# EAGLE library part K2EBP* (library EW_Electro_Mechanical)
UNIQUELY DESIGNED RELAY NAiS Source: http://www.mew-europe.com/.. en_ds_61013_0000.pdf
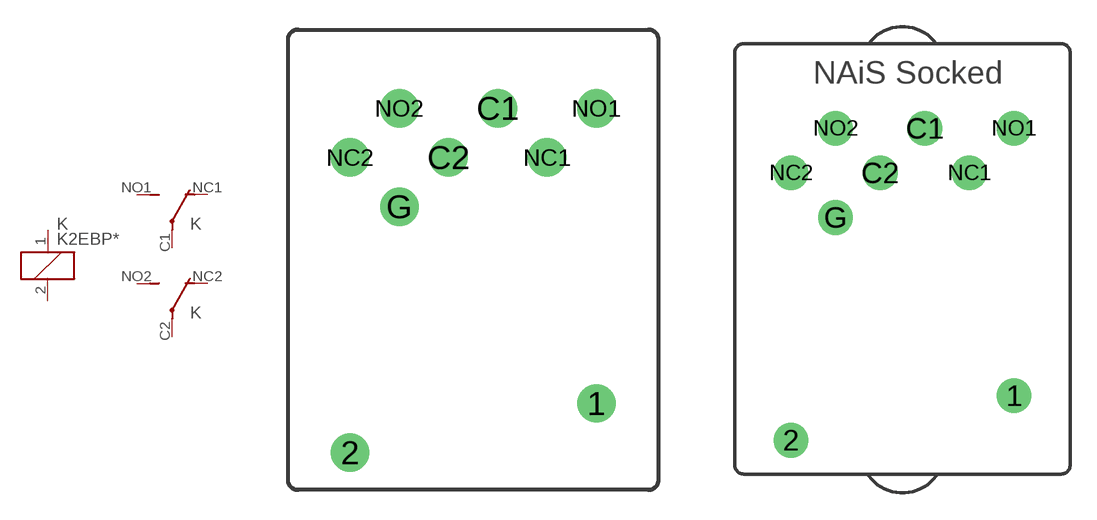
[diagram p59: symbol with the pads of K2EBP; footprints K2EBP, K2-PS]

Designator prefix K; gates _=K-63 1=U-48 2=U-48

## K2EBP-110V-1 (OC_FARNELL: unknown; OC_NEWARK: unknown), K2EBP-12V-1 (OC_FARNELL: unknown; OC_NEWARK: unknown), K2EBP-24V-1 (OC_FARNELL: unknown; OC_NEWARK: unknown), K2EBP-28V-1 (OC_FARNELL: unknown; OC_NEWARK: unknown), K2EBP-3V-1 (OC_FARNELL: unknown; OC_NEWARK: unknown), K2EBP-48V-1 (OC_FARNELL: unknown; OC_NEWARK: unknown), K2EBP-6V-1 (OC_FARNELL: unknown; OC_NEWARK: unknown)  [K2EBP]
1  _:1  pas
2  _:2  pas
C1  1:P  pas
C2  2:P  pas
NC1  1:O  pas
NC2  2:O  pas
NO1  1:S  pas
NO2  2:S  pas

## K2EBPS (OC_FARNELL: unknown; OC_NEWARK: unknown)  [K2-PS]
Pads as for K2EBP

## Footprint K2EBP (pad centres in mm)
UNIQUELY DESIGNED RELAY NAiS Source: http://www.mew-europe.com/.. en_ds_61013_0000.pdf
drill 1.3: 1 6.25,-6.25; 2 -6.25,-8.75; C1 1.25,8.75; C2 -1.25,6.25; G -3.75,3.75; NC1 3.75,6.25; NC2 -6.25,6.25; NO1 6.25,8.75; NO2 -3.75,8.75

## Footprint K2-PS (pad centres in mm)
RELAY Socked NAiS Source: http://www.mew-europe.com/.. en_ds_61013_0000.pdf
drill 1.3: 1 6.25,-6.25; 2 -6.25,-8.75; C1 1.25,8.75; C2 -1.25,6.25; G -3.75,3.75; NC1 3.75,6.25; NC2 -6.25,6.25; NO1 6.25,8.75; NO2 -3.75,8.75